# Altium schematic symbol library TRANS-PNP-CBE.SCHLIB: 1 symbol
Pins are listed as number, name and electrical type; pins without a type are passive.

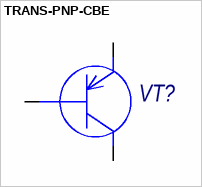
[diagram p0: symbol TRANS-PNP-CBE]

## TRANS-PNP-CBE
designator VT?
pins: 1 C, 2 B, 3 E